# EAGLE library part TINY13 (library avrs)
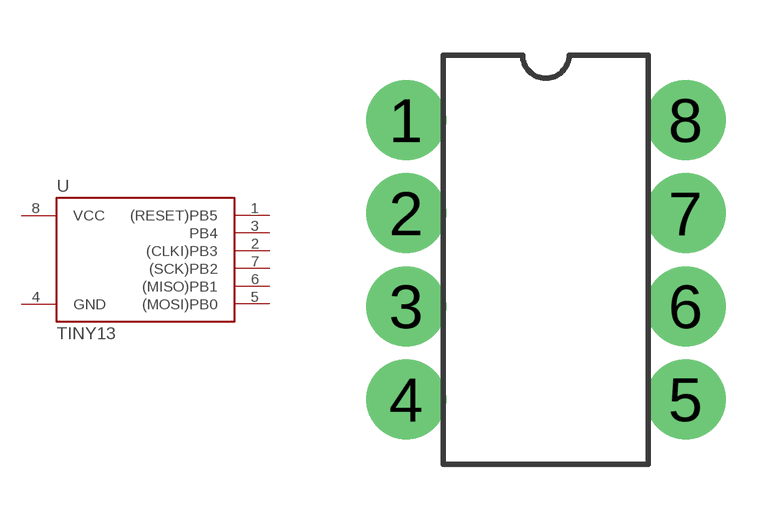
[diagram p7: symbol with the pads of DIL8; footprint DIL8]

Designator prefix -

## TINY13  [DIL8]
1  (RESET)PB5
2  (CLKI)PB3
3  PB4
4  GND  pwr
5  (MOSI)PB0
6  (MISO)PB1
7  (SCK)PB2
8  VCC  pwr

## Footprint DIL8 (pad centres in mm)
drill 1 pad 2.184: 1 -3.81,11.43; 2 -3.81,8.89; 3 -3.81,6.35; 4 -3.81,3.81; 5 3.81,3.81; 6 3.81,6.35; 7 3.81,8.89; 8 3.81,11.43